# EAGLE library part PCA9450BHNY (library PCA9450BHNY)
Power Management Specialized - PMIC Power Manage IC (PMIC) for i.MX 8M Nano Source: Datasheet <https://www.nxp.com/docs/en/data-sheet/PCA9450DS.pdf>
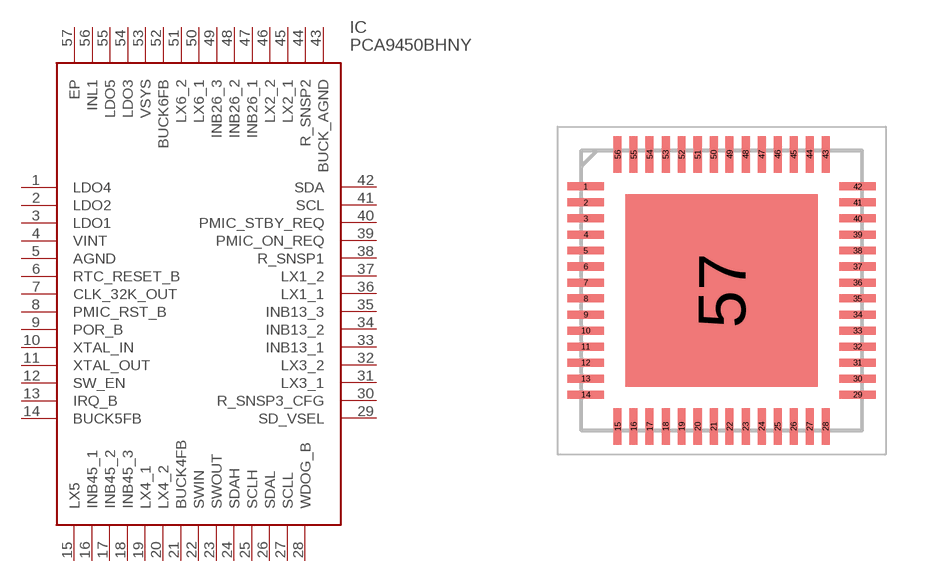
[diagram p0: symbol with the pads of QFN40P700X700X100-57N; footprint QFN40P700X700X100-57N]

Designator prefix IC

## PCA9450BHNY (Description: Power Management Specialized - PMIC Power Manage IC (PMIC) for i.MX 8M Nano; Height: 1mm; Manufacturer_Name: NXP; Manufacturer_Part_Number: PCA9450BHNY; Mouser_Part_Number: 771-PCA9450BHNY; Mouser_Price-Stock: https://www.mouser.co.uk/ProductDetail/NXP-Semiconductors/PCA9450BHNY?qs=Cb2nCFKsA8rwtiYebomP2w%3D%3D)  [QFN40P700X700X100-57N]
1  LDO4
2  LDO2
3  LDO1
4  VINT
5  AGND
6  RTC_RESET_B
7  CLK_32K_OUT
8  PMIC_RST_B
9  POR_B
10  XTAL_IN
11  XTAL_OUT
12  SW_EN
13  IRQ_B
14  BUCK5FB
15  LX5
16  INB45_1
17  INB45_2
18  INB45_3
19  LX4_1
20  LX4_2
21  BUCK4FB
22  SWIN
23  SWOUT
24  SDAH
25  SCLH
26  SDAL
27  SCLL
28  WDOG_B
29  SD_VSEL
30  R_SNSP3_CFG
31  LX3_1
32  LX3_2
33  INB13_1
34  INB13_2
35  INB13_3
36  LX1_1
37  LX1_2
38  R_SNSP1
39  PMIC_ON_REQ
40  PMIC_STBY_REQ
41  SCL
42  SDA
43  BUCK_AGND
44  R_SNSP2
45  LX2_1
46  LX2_2
47  INB26_1
48  INB26_2
49  INB26_3
50  LX6_1
51  LX6_2
52  BUCK6FB
53  VSYS
54  LDO3
55  LDO5
56  INL1
57  EP

## Footprint QFN40P700X700X100-57N (pad centres in mm)
HVQFN56 (SOT949-6)_1
smd 0.9 x 0.2: 1 -3.4,2.6; 2 -3.4,2.2; 3 -3.4,1.8; 4 -3.4,1.4; 5 -3.4,1; 6 -3.4,0.6; 7 -3.4,0.2; 8 -3.4,-0.2; 9 -3.4,-0.6; 10 -3.4,-1; 11 -3.4,-1.4; 12 -3.4,-1.8; 13 -3.4,-2.2; 14 -3.4,-2.6; 29 3.4,-2.6; 30 3.4,-2.2; 31 3.4,-1.8; 32 3.4,-1.4; 33 3.4,-1; 34 3.4,-0.6; 35 3.4,-0.2; 36 3.4,0.2; 37 3.4,0.6; 38 3.4,1; 39 3.4,1.4; 40 3.4,1.8; 41 3.4,2.2; 42 3.4,2.6
smd 0.2 x 0.9: 15 -2.6,-3.4; 16 -2.2,-3.4; 17 -1.8,-3.4; 18 -1.4,-3.4; 19 -1,-3.4; 20 -0.6,-3.4; 21 -0.2,-3.4; 22 0.2,-3.4; 23 0.6,-3.4; 24 1,-3.4; 25 1.4,-3.4; 26 1.8,-3.4; 27 2.2,-3.4; 28 2.6,-3.4; 43 2.6,3.4; 44 2.2,3.4; 45 1.8,3.4; 46 1.4,3.4; 47 1,3.4; 48 0.6,3.4; 49 0.2,3.4; 50 -0.2,3.4; 51 -0.6,3.4; 52 -1,3.4; 53 -1.4,3.4; 54 -1.8,3.4; 55 -2.2,3.4; 56 -2.6,3.4
smd 4.8 x 4.8: 57 0,0